# EAGLE library part TS5A23166 (library ardustat)
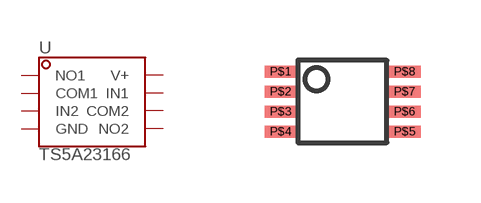
[diagram p15: symbol with the pads of TS5A3357; footprint TS5A3357]

Designator prefix -

## TS5A23166  [TS5A3357]
P$1  NO1
P$2  COM1
P$3  IN2
P$4  GND
P$5  NO2
P$6  COM2
P$7  IN1
P$8  V+

## Footprint TS5A3357 (pad centres in mm)
smd 0.8 x 0.3: P$1 -1.565,0.734; P$2 -1.565,0.234; P$3 -1.565,-0.266; P$4 -1.565,-0.766; P$5 1.535,-0.766; P$6 1.535,-0.266; P$7 1.535,0.234; P$8 1.535,0.734